# EAGLE library part DRAM_256KX16 (library u1200)
Any 256k x 16 DRAM in a 40Pin SOJ Format e.g. V53C16258H
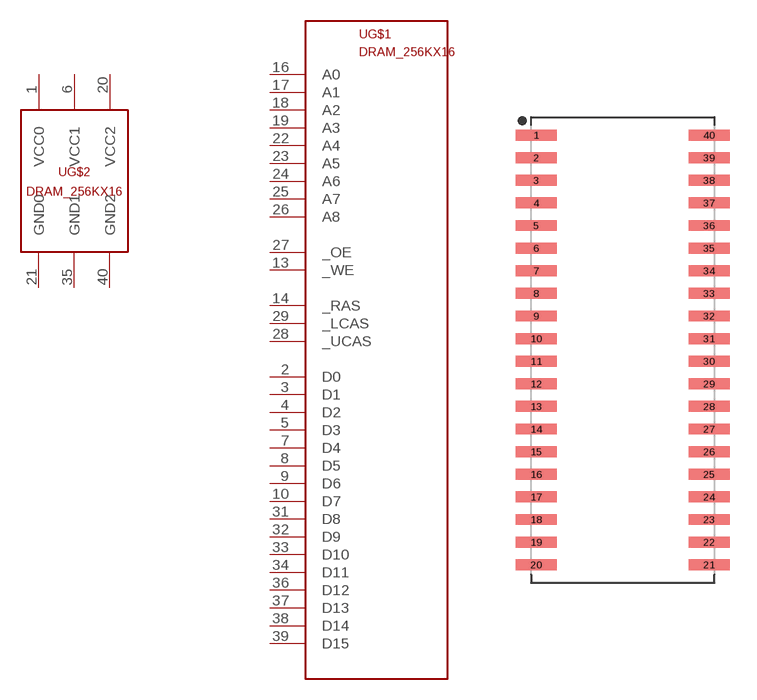
[diagram p6: symbol with the pads of SOJ127P1117X376-40; footprint SOJ127P1117X376-40]

Designator prefix -; gates G$1=DRAM_256KX16 G$2=DRAM_256KX16_PWR

## DRAM_256KX16  [SOJ127P1117X376-40]
1  G$2:VCC0  pwr
2  G$1:D0
3  G$1:D1
4  G$1:D2
5  G$1:D3
6  G$2:VCC1  pwr
7  G$1:D4
8  G$1:D5
9  G$1:D6
10  G$1:D7
13  G$1:_WE
14  G$1:_RAS
16  G$1:A0
17  G$1:A1
18  G$1:A2
19  G$1:A3
20  G$2:VCC2  pwr
21  G$2:GND0  pas
22  G$1:A4
23  G$1:A5
24  G$1:A6
25  G$1:A7
26  G$1:A8
27  G$1:_OE
28  G$1:_UCAS
29  G$1:_LCAS
31  G$1:D8
32  G$1:D9
33  G$1:D10
34  G$1:D11
35  G$2:GND1  pwr
36  G$1:D12
37  G$1:D13
38  G$1:D14
39  G$1:D15
40  G$2:GND2  pwr

## Footprint SOJ127P1117X376-40 (pad centres in mm)
40-SOJ, 1.27 mm pitch, 11.18 mm span, 26.04 X 10.16 X 3.76 mm body 40-pin SOJ package with 1.27 mm pitch, 11.18 mm span with body size 26.04 X 10.16 X 3.76 mm
smd 2.315 x 0.612: 1 -4.854,12.065; 2 -4.854,10.795; 3 -4.854,9.525; 4 -4.854,8.255; 5 -4.854,6.985; 6 -4.854,5.715; 7 -4.854,4.445; 8 -4.854,3.175; 9 -4.854,1.905; 10 -4.854,0.635; 11 -4.854,-0.635; 12 -4.854,-1.905; 13 -4.854,-3.175; 14 -4.854,-4.445; 15 -4.854,-5.715; 16 -4.854,-6.985; 17 -4.854,-8.255; 18 -4.854,-9.525; 19 -4.854,-10.795; 20 -4.854,-12.065; 21 4.854,-12.065; 22 4.854,-10.795; 23 4.854,-9.525; 24 4.854,-8.255; 25 4.854,-6.985; 26 4.854,-5.715; 27 4.854,-4.445; 28 4.854,-3.175; 29 4.854,-1.905; 30 4.854,-0.635; 31 4.854,0.635; 32 4.854,1.905; 33 4.854,3.175; 34 4.854,4.445; 35 4.854,5.715; 36 4.854,6.985; 37 4.854,8.255; 38 4.854,9.525; 39 4.854,10.795; 40 4.854,12.065